# Altium footprint library PJ-085AH.PcbLib: 1 footprints
Each footprint in its own frame and in the unit in brackets; x right, y up, seen from the top. Pads: shape width x height; smd on the part's side, far side on the other; paste and mask are expansions set on the pad; w line width, h text height; cw(c..) or ccw(c..) is an arc to the next point about the centre after c.
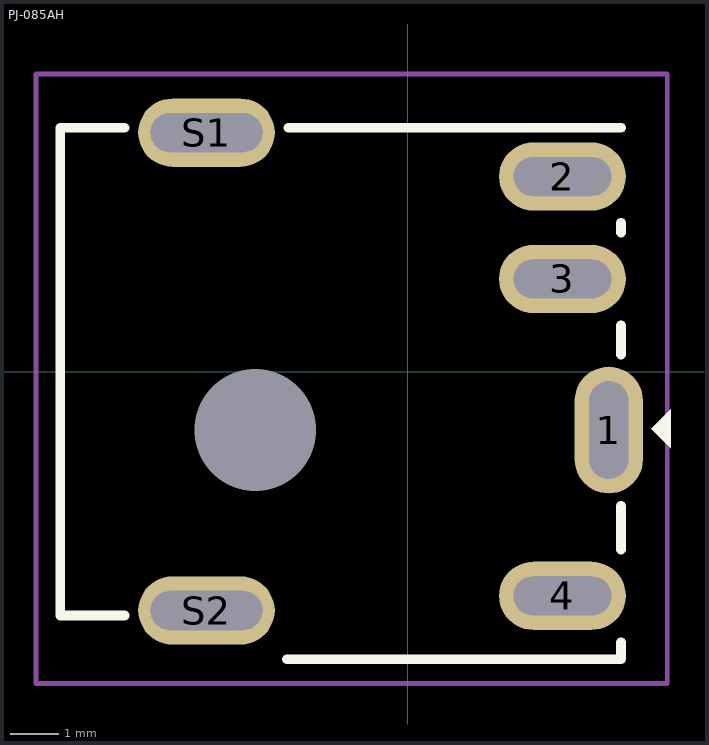
[diagram p0: the footprint, top view; thin cyan lines are the x and y axes]

## PJ-085AH [mm]
pads (7):
  oval 1.4x2.6 hole 0.8 slot 2 at 90 deg: 1(4.125,-1.2)
  oval 2.6x1.4 hole 0.8 slot 2 at 0 deg: 2(3.175,4) 3(3.175,1.9) 4(3.175,-4.6)
  oval 2.8x1.4 hole 0.8 slot 2.3 at 0 deg: S1(-4.125,4.9) S2(-4.125,-4.9)
  round 1 hole 2.5 unplated: ""(-3.125,-1.2)
Top Overlay:
  region: 5.4,-0.775 5.4,-1.575 5,-1.175
  lines w0.2: -5.8,-5 -7.125,-5 -7.125,5 -5.8,5 ; -2.475,-5.9 4.375,-5.9 4.375,-5.55 ; -2.45,5 4.375,5 ; 4.375,-3.65 4.375,-2.75 ; 4.375,0.35 4.375,0.95 ; 4.375,2.85 4.375,3.05
Top Courtyard:
  lines w0.1: -7.625,-6.4 -7.625,6.1 5.325,6.1 5.325,-6.4 -7.125,-6.4 -7.625,-6.4
3D body "CUI_DEVICES_PJ-085AH.step": height 7.32, standoff -2.38, extent -7.125,-5.9 4.575,5